# Altium footprint library Capacitors THD.PcbLib: 270 footprints (part 7 of 17)
Each footprint in its own frame and in the unit in brackets; x right, y up, seen from the top. Pads: shape width x height; smd on the part's side, far side on the other; paste and mask are expansions set on the pad; w line width, h text height; cw(c..) or ccw(c..) is an arc to the next point about the centre after c.
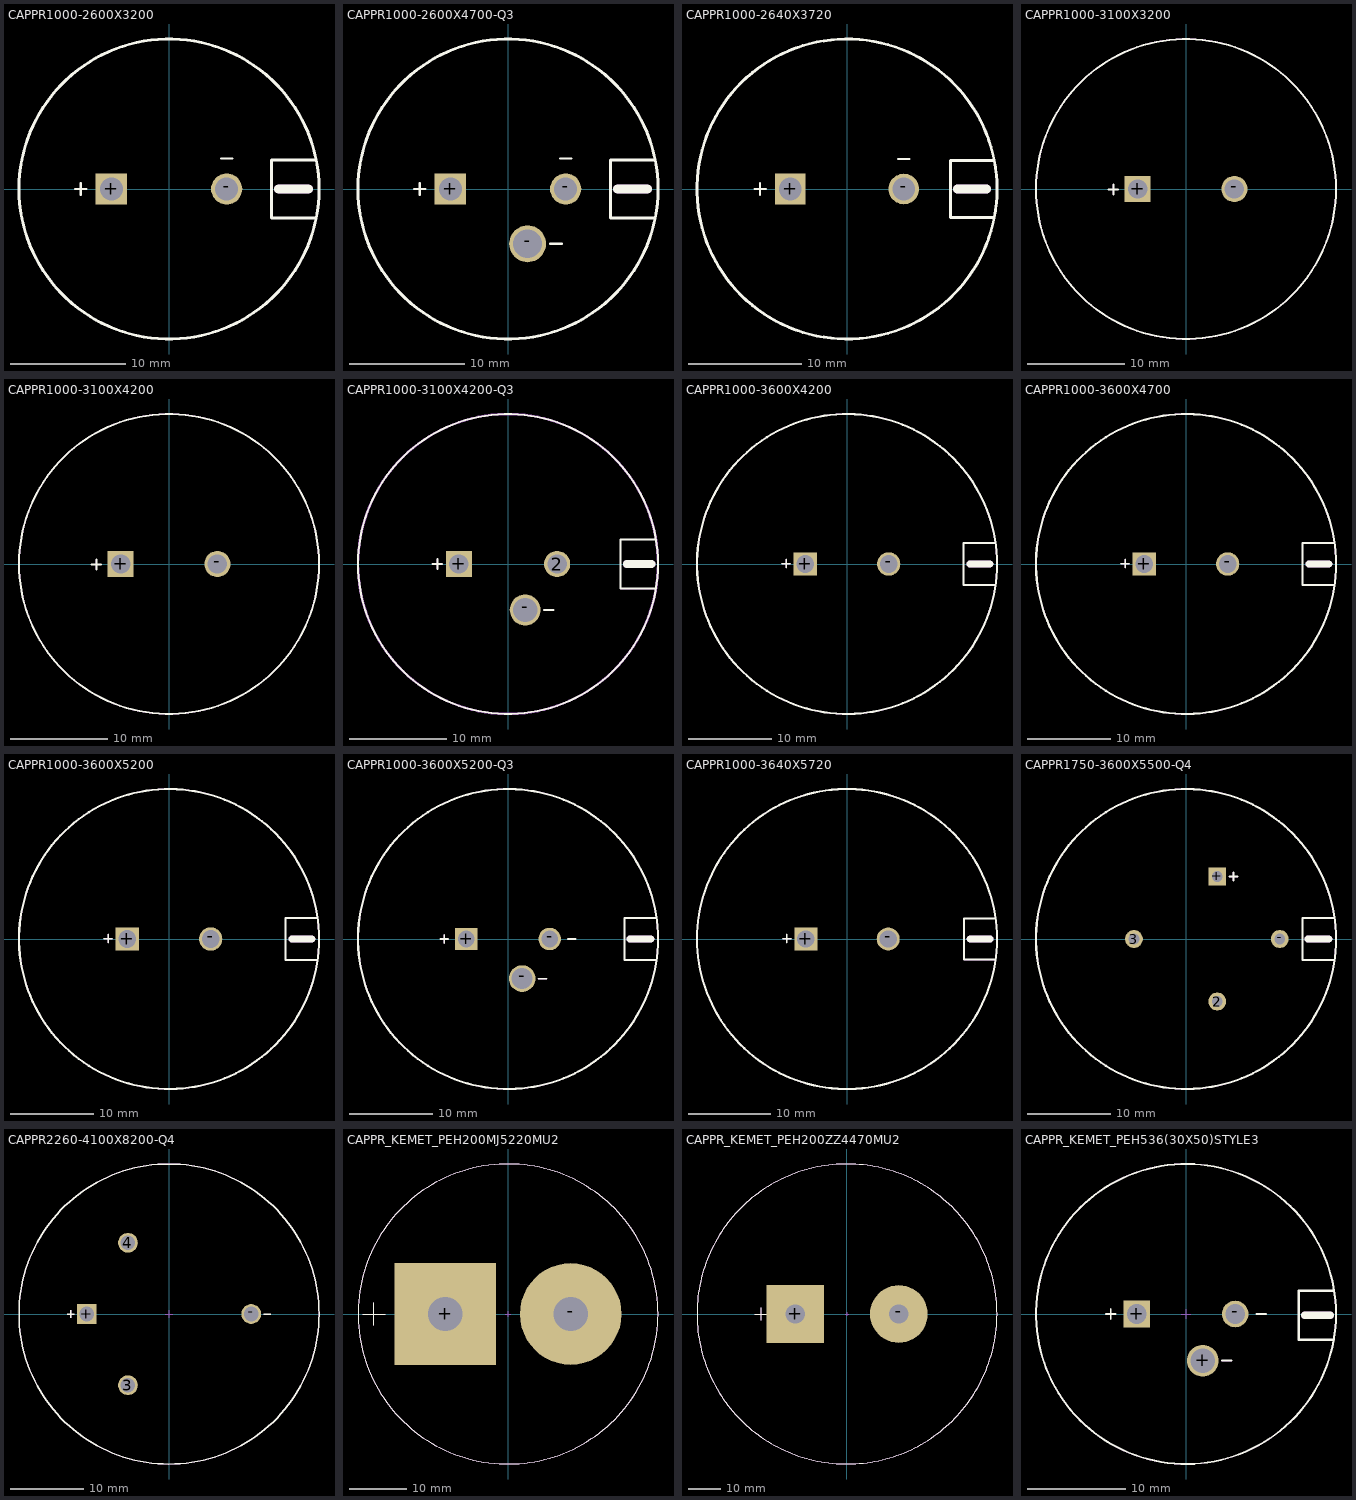
[diagram p6: the footprints below, top view; thin cyan lines are the x and y axes]

## CAPPR1000-2600X3200 [mm] "Capacitor, Radial, Pins spacing 10mm - Body Diameter 26.0mm X Body  Height 32.0mm"
height 32
pads (2):
  rect 2.7x2.7 hole 2: +(-5,0)
  round 2.7 hole 2: -(5,0)
Top Overlay:
  circle w0.254: c0,0 r13
  lines w0.2: -8.15,0 -7.15,0 ; -7.65,-0.5 -7.65,0.5 ; 4.5,2.65 5.5,2.65
  lines w0.254: 12.65,-2.5 8.9,-2.5 8.9,2.5 12.65,2.5
  lines w0.8: 9.519,0 10.154,0 11.424,0 12.059,0
Mechanical 14:
  circle w0.1: c0,0 r13
  lines w0.1: -8.15,0 -7.15,0 ; -7.65,-0.5 -7.65,0.5 ; 4.5,2.65 5.5,2.65 ; 12.65,-2.5 8.9,-2.5 8.9,2.5 12.65,2.5
  lines w0.8: 9.519,0 12.059,0
3D body "CAPPR1000-2600X3200.stp": height 32, standoff -4, extent -13,-13 13,13

## CAPPR1000-2600X4700-Q3 [mm] "Capacitor, Radial, 3 Pins spacing 10mm and 4.75mm - Body Diameter 26.0mm X Body  Height 47.0mm"
height 47
pads (3):
  rect 2.7x2.7 hole 2: +(-5,0)
  round 3.2 hole 2.5: -(1.7,-4.75)
  round 2.7 hole 2: -(5,0)
Top Overlay:
  circle w0.254: c0,0 r13
  lines w0.2: -8.15,0 -7.15,0 ; -7.65,-0.5 -7.65,0.5 ; 3.65,-4.75 4.65,-4.75 ; 4.5,2.65 5.5,2.65
  lines w0.254: 12.65,-2.5 8.9,-2.5 8.9,2.5 12.65,2.5
  lines w0.8: 9.519,0 10.154,0 11.424,0 12.059,0
Mechanical 14:
  circle w0.1: c0,0 r13
  lines w0.1: -8.15,0 -7.15,0 ; -7.65,-0.5 -7.65,0.5 ; 3.65,-4.75 4.65,-4.75 ; 4.5,2.65 5.5,2.65 ; 12.65,-2.5 8.9,-2.5 8.9,2.5 12.65,2.5
  lines w0.8: 9.519,0 12.059,0
3D body "CAPPR1000-2600X4700-Q3.stp": height 47, standoff -4, extent -13,-13 13,13

## CAPPR1000-2640X3720 [mm] "Capacitor, Radial, Pins spacing 10mm - Body Diameter 26.4.0mm X Body  Height 37.2mm"
height 37.2
pads (2):
  rect 2.7x2.7 hole 2: +(-5,0)
  round 2.7 hole 2: -(5,0)
Top Overlay:
  circle w0.254: c0,0 r13.2
  lines w0.2: -8.15,0 -7.15,0 ; -7.65,-0.5 -7.65,0.5 ; 4.5,2.65 5.5,2.65
  lines w0.254: 12.85,-2.5 9.1,-2.5 9.1,2.5 12.85,2.5
  lines w0.8: 9.719,0 10.354,0 11.624,0 12.259,0
Mechanical 14:
  circle w0.1: c0,0 r13.2
  lines w0.1: -8.15,0 -7.15,0 ; -7.65,-0.5 -7.65,0.5 ; 4.5,2.65 5.5,2.65 ; 12.85,-2.5 9.1,-2.5 9.1,2.5 12.85,2.5
  lines w0.8: 9.719,0 12.259,0
3D body "CAPPR1000-2640X3720.stp": height 37.2, standoff -4, extent -13.169,-13.18 13.195,13.181

## CAPPR1000-3100X3200 [mm] "Capacitor, Radial, Pin spacing 10.0mm - Body Diameter 31.0mm X Body  Height 32.0mm"
height 32
pads (2):
  rect 2.7x2.7 hole 2: +(-5,0)
  round 2.7 hole 2: -(5,0)
Top Overlay:
  circle w0.2: c0,0 r15.5
  lines w0.2: -8,-0.05 -7,-0.05 ; -7.5,-0.55 -7.5,0.45
Mechanical 14:
  circle w0.1: c0,0 r15.5
  lines w0.1: -8,-0.05 -7,-0.05 ; -7.5,-0.55 -7.5,0.45
3D body "CAPPR1000-3100X3200.stp": height 32, standoff -4, extent -15.5,-15.457 15.5,15.457

## CAPPR1000-3100X4200 [mm] "Capacitor, Radial, Pin spacing 10.0mm - Body Diameter 31.0mm X Body  Height 42.0mm"
height 42
pads (2):
  rect 2.7x2.7 hole 2: +(-5,0)
  round 2.7 hole 2: -(5,0)
Top Overlay:
  circle w0.2: c0,0 r15.5
  lines w0.2: -8,-0.05 -7,-0.05 ; -7.5,-0.55 -7.5,0.45
Mechanical 14:
  circle w0.1: c0,0 r15.5
  lines w0.1: -8,-0.05 -7,-0.05 ; -7.5,-0.55 -7.5,0.45
3D body "CAPPR1000-3100X4200.stp": height 42, standoff -4, extent -15.5,-15.5 15.5,15.5

## CAPPR1000-3100X4200-Q3 [mm] "Capacitor, Radial, 3 Pins spacing 10mm and 4.75mm - Body Diameter 31mm X Body  Height 42mm"
height 42
pads (3):
  round 2.7 hole 2: 2(5.08,0)
  rect 2.7x2.7 hole 2: +(-5.08,0)
  round 3.2 hole 2.5: -(1.78,-4.75)
Top Overlay:
  circle w0.2: c0,0 r15.5
  lines w0.2: -7.8,0 -6.8,0 ; -7.3,-0.5 -7.3,0.5 ; 3.7,-4.75 4.7,-4.75 ; 15.2,-2.54 11.644,-2.54 11.644,2.54 15.2,2.54
  lines w0.8: 12.279,0 14.819,0
Mechanical 13:
  circle w0.254: c0,0 r15.5
Mechanical 14:
  lines w0.1: -7.8,0 -6.8,0 ; -7.3,-0.5 -7.3,0.5 ; 3.7,-4.75 4.7,-4.75 ; 15.2,-2.54 11.644,-2.54 11.644,2.54 15.2,2.54
  lines w0.8: 12.279,0 14.819,0
3D body "CAPPR1000-3100X4200-Q3.stp": height 42, standoff -4, extent -15.5,-15.5 15.5,15.5

## CAPPR1000-3600X4200 [mm] "Capacitor, Radial, Leads spacing 10mm - Body Diameter 35.0mm X Body  Height 40.0mm"
height 42
pads (2):
  rect 2.8x2.8 hole 2.1: +(-5,0)
  round 2.8 hole 2.1: -(5,0)
Top Overlay:
  circle w0.254: c0,0 r18
  lines w0.2: -7.8,0.05 -6.8,0.05 ; -7.3,-0.45 -7.3,0.55
  lines w0.254: 17.75,-2.5 14,-2.5 14,2.5 17.75,2.5
  lines w0.8: 14.725,0 17.159,0
Mechanical 14:
  circle w0.1: c0,0 r18
  lines w0.1: -7.8,0.05 -6.8,0.05 ; -7.3,-0.45 -7.3,0.55 ; 17.75,-2.5 14,-2.5 14,2.5 17.75,2.5
  lines w0.8: 14.725,0 17.159,0
3D body "CAPPR1000-3600X4200.stp": height 42, standoff -4, extent -18,-17.985 18,17.985

## CAPPR1000-3600X4700 [mm] "Capacitor, Radial, Leads spacing 10mm - Body Diameter 36.0mm X Body  Height 47.0mm"
height 47
pads (2):
  rect 2.8x2.8 hole 2.1: +(-5,0)
  round 2.8 hole 2.1: -(5,0)
Top Overlay:
  circle w0.254: c0,0 r18
  lines w0.2: -7.8,0.05 -6.8,0.05 ; -7.3,-0.45 -7.3,0.55
  lines w0.254: 17.75,-2.5 14,-2.5 14,2.5 17.75,2.5
  lines w0.8: 14.725,0 17.159,0
Mechanical 14:
  circle w0.1: c0,0 r18
  lines w0.1: -7.8,0.05 -6.8,0.05 ; -7.3,-0.45 -7.3,0.55 ; 17.75,-2.5 14,-2.5 14,2.5 17.75,2.5
  lines w0.8: 14.725,0 17.159,0
3D body "CAPPR1000-3600X4700.stp": height 47, standoff -4, extent -18,-17.995 17.997,17.996

## CAPPR1000-3600X5200 [mm] "Capacitor, Radial, Leads spacing 10mm - Body Diameter 35.0mm X Body  Height 50.0mm"
height 52
pads (2):
  rect 2.8x2.8 hole 2.1: +(-5,0)
  round 2.8 hole 2.1: -(5,0)
Top Overlay:
  circle w0.254: c0,0 r18
  lines w0.2: -7.8,0.05 -6.8,0.05 ; -7.3,-0.45 -7.3,0.55
  lines w0.254: 17.75,-2.5 14,-2.5 14,2.5 17.75,2.5
  lines w0.8: 14.725,0 17.159,0
Mechanical 14:
  circle w0.1: c0,0 r18
  lines w0.1: -7.8,0.05 -6.8,0.05 ; -7.3,-0.45 -7.3,0.55 ; 17.75,-2.5 14,-2.5 14,2.5 17.75,2.5
  lines w0.8: 14.725,0 17.159,0
3D body "CAPPR1000-3600X5200.stp": height 52, standoff -4, extent -18,-17.958 18,17.958

## CAPPR1000-3600X5200-Q3 [mm] "Capacitor, Radial, 3 Pins spacing 10mm and 4.75mm - Body Diameter 36.0mm X Body  Height 52.0mm"
height 52
pads (3):
  rect 2.7x2.7 hole 2: +(-5,0)
  round 3.2 hole 2.5: -(1.7,-4.75)
  round 2.7 hole 2: -(5,0)
Top Overlay:
  circle w0.254: c0,0 r18
  lines w0.2: -8.15,0 -7.15,0 ; -7.65,-0.5 -7.65,0.5 ; 3.65,-4.75 4.65,-4.75 ; 7.15,0 8.15,0
  lines w0.254: 17.75,-2.5 14,-2.5 14,2.5 17.75,2.5
  lines w0.8: 14.619,0 17.159,0
Mechanical 14:
  circle w0.1: c0,0 r18
  lines w0.1: -8.15,0 -7.15,0 ; -7.65,-0.5 -7.65,0.5 ; 3.65,-4.75 4.65,-4.75 ; 7.15,0 8.15,0 ; 17.75,-2.5 14,-2.5 14,2.5 17.75,2.5
  lines w0.8: 14.619,0 17.159,0
3D body "CAPPR1000-3600X5200-Q3.stp": height 52, standoff -4, extent -18,-17.958 18,17.958

## CAPPR1000-3640X5720 [mm] "Capacitor, Radial, Leads spacing 10mm - Body Diameter 36.4mm X Body  Height 57.2mm"
height 57.2
pads (2):
  rect 2.8x2.8 hole 2.1: +(-5,0)
  round 2.8 hole 2.1: -(5,0)
Top Overlay:
  circle w0.254: c0,0 r18.2
  lines w0.2: -7.8,0.05 -6.8,0.05 ; -7.3,-0.45 -7.3,0.55
  lines w0.254: 17.95,-2.5 14.2,-2.5 14.2,2.5 17.95,2.5
  lines w0.8: 14.925,0 17.359,0
Mechanical 14:
  circle w0.1: c0,0 r18.2
  lines w0.1: -7.8,0.05 -6.8,0.05 ; -7.3,-0.45 -7.3,0.55 ; 17.95,-2.5 14.2,-2.5 14.2,2.5 17.95,2.5
  lines w0.8: 14.925,0 17.359,0
3D body "CAPPR1000-3640X5720.stp": height 57.2, standoff -4, extent -18.2,-18.199 18.197,18.199

## CAPPR1750-3600X5500-Q4 [mm] "Capacitor, Radial, 4 Pins spacing 15mm and 17.5mm - Body Diameter 36.0mm X Body  Height 55.0mm"
height 55
pads (4):
  round 2.15 hole 1.3: 2(3.75,-7.5) 3(-6.25,0) -(11.25,0)
  rect 2.15x2.15 hole 1.3: +(3.75,7.5)
Top Overlay:
  circle w0.254: c0,0 r18
  lines w0.2: 5.2,7.5 6.2,7.5 ; 5.7,7 5.7,8
  lines w0.254: 17.75,-2.5 14,-2.5 14,2.5 17.75,2.5
  lines w0.8: 14.619,0 17.159,0
Mechanical 14:
  circle w0.1: c0,0 r18
  lines w0.1: 5.2,7.5 6.2,7.5 ; 5.7,7 5.7,8 ; 17.75,-2.5 14,-2.5 14,2.5 17.75,2.5
  lines w0.8: 14.619,0 17.159,0
3D body "CAPPR1750-3600X5500-Q4.stp": height 50, standoff -3.2, extent -18,-18 17.997,18

## CAPPR2260-4100X8200-Q4 [mm] "Capacitor, Radial, 4 Pins spacing 22.6mm - Body Diameter 41mm X Body  Height 82mm"
height 82
pads (4):
  round 2.7 hole 2: 3(-5.625,-9.743) 4(-5.625,9.743) -(11.25,0)
  rect 2.7x2.7 hole 2: +(-11.25,0)
Top Overlay:
  circle w0.2: c0,0 r20.524
  lines w0.2: -13.95,0 -12.95,0 ; -13.45,-0.5 -13.45,0.5 ; 12.95,0 13.95,0
Mechanical 8:
  lines w0.1: -11.75,0 -11.25,0 ; -11.25,-0.5 -11.25,0 ; -11.25,0.5 -11.25,0 ; -10.75,0 -11.25,0 ; -6.125,-9.743 -5.625,-9.743 ; -6.125,9.743 -5.625,9.743 ; -5.625,-10.243 -5.625,-9.743 ; -5.625,-9.243 -5.625,-9.743 ; -5.625,9.243 -5.625,9.743 ; -5.625,10.243 -5.625,9.743 ; -5.125,-9.743 -5.625,-9.743 ; -5.125,9.743 -5.625,9.743 ; -0.5,0 0,0 ; 0,-0.5 0,0 ; 0,0.5 0,0 ; 0.5,0 0,0 ; 10.75,0 11.25,0 ; 11.25,-0.5 11.25,0 ; 11.25,0.5 11.25,0 ; 11.75,0 11.25,0
Mechanical 14:
  circle w0.1: c0,0 r20.524
  lines w0.1: -13.95,0 -12.95,0 ; -13.45,-0.5 -13.45,0.5 ; 12.95,0 13.95,0
3D body "CAPPR2260-4100X8200-Q4.stp": height 82, standoff -4, extent -20.5,-20.466 20.5,20.466

## CAPPR_KEMET_PEH200MJ5220MU2 [mm] "Capacitor, Radial, Leads spacing 22mm - Body Diameter 50mm X Body  Height 95mm"
height 103.4
pads (2):
  rect 17.8x17.8 hole 6: +(-11,0)
  round 17.8 hole 6: -(11,0)
Top Overlay:
  circle w0.2: c0,0 r26.3
  lines w0.2: -25.5,0 -21.5,0 ; -23.5,-2 -23.5,2
Mechanical 8:
  lines w0.05: -11.5,0 -11,0 ; -11,-0.5 -11,0 ; -11,0.5 -11,0 ; -10.5,0 -11,0 ; -0.5,0 0,0 ; 0,-0.5 0,0 ; 0,0.5 0,0 ; 0.5,0 0,0 ; 10.5,0 11,0 ; 11,-0.5 11,0 ; 11,0.5 11,0 ; 11.5,0 11,0
Mechanical 14:
  circle w0.1: c0,0 r26.3
  lines w0.1: -25.5,0 -21.5,0 ; -23.5,-2 -23.5,2 ; -17.5,-3 -17.5,-2 ; -17.5,-1 -17.5,1 ; -17.5,2 -17.5,3 ; -17.344,-4 ccw(c-11,0) -17,-4.5 ; -17.344,4 cw(c-11,0) -17,4.5 ; -16,-5.59 ccw(c-11,0) -15,-6.344 ; -16,5.59 cw(c-11,0) -15,6.344 ; -14,-6.874 ccw(c-11,0) -13,-7.228 ; -14,6.874 cw(c-11,0) -13,7.228 ; -12,-7.433 ccw(c-11,0) -10,-7.433 ; -12,7.433 cw(c-11,0) -10,7.433 ; -9,-7.228 ccw(c-11,0) -8,-6.874 ; -9,7.228 cw(c-11,0) -8,6.874 ; -7,-6.344 ccw(c-11,0) -6,-5.59 ; -7,6.344 cw(c-11,0) -6,5.59 ; -5,-4.5 ccw(c-11,0) -4.656,-4 ; -5,4.5 cw(c-11,0) -4.656,4 ; -4.5,-3 -4.5,-2 ; -4.5,-1 -4.5,1 ; -4.5,2 -4.5,3 ; 3.567,-1 cw(c11,0) 3.567,1 ; 3.772,-2 ccw(c11,0) 4.126,-3 ; 3.772,2 cw(c11,0) 4.126,3 ; 4.656,-4 ccw(c11,0) 5.41,-5 ; 4.656,4 cw(c11,0) 5.41,5 ; 6.5,-6 ccw(c11,0) 7.258,-6.5 9,-6.5 ; 6.5,6 cw(c11,0) 7.258,6.5 9,6.5 ; 10,-6.5 12,-6.5 ; 10,6.5 12,6.5 ; 13,-6.5 14.742,-6.5 ccw(c11,0) 15.5,-6 ; 13,6.5 14.742,6.5 cw(c11,0) 15.5,6 ; 16.59,-5 ccw(c11,0) 17.344,-4 ; 16.59,5 cw(c11,0) 17.344,4 ; 17.874,-3 ccw(c11,0) 18.228,-2 ; 17.874,3 cw(c11,0) 18.228,2 ; 18.433,-1 ccw(c11,0) 18.433,1
3D body "CAPPR_KEMET_PEH200MJ5220MU2_part1.stp": height 103.4, standoff 0, extent -26.3,-26.3 26.3,26.3
3D body "CAPPR_KEMET_PEH200MJ5220MU2_part2.stp": height 5.2, standoff -6.1, extent -19,-8 19,8

## CAPPR_KEMET_PEH200ZZ4470MU2 [mm] "Capacitor, Radial, Leads spacing 32mm - Body Diameter 90mm X Body  Height 220mm"
height 226.9
pads (2):
  rect 17.8x17.8 hole 6: +(-16,0)
  round 17.8 hole 6: -(16,0)
Top Overlay:
  circle w0.2: c0,0 r46.3
  lines w0.2: -28.5,0 -24.5,0 ; -26.5,-2 -26.5,2
Mechanical 8:
  lines w0.1: -16.5,0 -16,0 ; -16,-0.5 -16,0 ; -16,0.5 -16,0 ; -15.5,0 -16,0 ; -0.5,0 0,0 ; 0,-0.5 0,0 ; 0,0.5 0,0 ; 0.5,0 0,0 ; 15.5,0 16,0 ; 16,-0.5 16,0 ; 16,0.5 16,0 ; 16.5,0 16,0
Mechanical 14:
  circle w0.1: c0,0 r46.3
  lines w0.1: -28.5,0 -24.5,0 ; -26.5,-2 -26.5,2 ; -22.5,-3 -22.5,-2 ; -22.5,-1 -22.5,1 ; -22.5,2 -22.5,3 ; -22.344,-4 ccw(c-16,0) -22,-4.5 ; -22.344,4 cw(c-16,0) -22,4.5 ; -21,-5.59 ccw(c-16,0) -20,-6.344 ; -21,5.59 cw(c-16,0) -20,6.344 ; -19,-6.874 ccw(c-16,0) -18,-7.228 ; -19,6.874 cw(c-16,0) -18,7.228 ; -17,-7.433 ccw(c-16,0) -15,-7.433 ; -17,7.433 cw(c-16,0) -15,7.433 ; -14,-7.228 ccw(c-16,0) -13,-6.874 ; -14,7.228 cw(c-16,0) -13,6.874 ; -12,-6.344 ccw(c-16,0) -11,-5.59 ; -12,6.344 cw(c-16,0) -11,5.59 ; -10,-4.5 ccw(c-16,0) -9.656,-4 ; -10,4.5 cw(c-16,0) -9.656,4 ; -9.5,-3 -9.5,-2 ; -9.5,-1 -9.5,1 ; -9.5,2 -9.5,3 ; 8.567,-1 cw(c16,0) 8.567,1 ; 8.772,-2 ccw(c16,0) 9.126,-3 ; 8.772,2 cw(c16,0) 9.126,3 ; 9.656,-4 ccw(c16,0) 10.41,-5 ; 9.656,4 cw(c16,0) 10.41,5 ; 11.5,-6 ccw(c16,0) 12.258,-6.5 14,-6.5 ; 11.5,6 cw(c16,0) 12.258,6.5 14,6.5 ; 15,-6.5 17,-6.5 ; 15,6.5 17,6.5 ; 18,-6.5 19.742,-6.5 ccw(c16,0) 20.5,-6 ; 18,6.5 19.742,6.5 cw(c16,0) 20.5,6 ; 21.59,-5 ccw(c16,0) 22.344,-4 ; 21.59,5 cw(c16,0) 22.344,4 ; 22.874,-3 ccw(c16,0) 23.228,-2 ; 22.874,3 cw(c16,0) 23.228,2 ; 23.433,-1 ccw(c16,0) 23.433,1
3D body "CAPPR_KEMET_PEH200ZZ4470MU2_Part1.stp": height 226.9, standoff 0, extent -46.3,-46.3 46.3,46.3
3D body "CAPPR_KEMET_PEH200ZZ4470MU2_Part2.stp": height 5.2, standoff -6.1, extent -24,-8 24,8

## CAPPR_KEMET_PEH536(30X50)STYLE3 [mm] "Capacitor, Radial, 3 Pins spacing 10mm and 4.75mm - Body Diameter 30.5mm X Body  Height 51.0mm"
height 51
pads (3):
  rect 2.7x2.7 hole 2: +(-5,0)
  round 3.2 hole 2.5: +(1.7,-4.75)
  round 2.7 hole 2: -(5,0)
Top Overlay:
  circle w0.2: c0,0 r15.25
  lines w0.2: -8.15,0 -7.15,0 ; -7.65,-0.5 -7.65,0.5 ; 3.65,-4.75 4.65,-4.75 ; 7.15,0 8.15,0
  lines w0.254: 15,-2.625 11.475,-2.625 11.475,2.375 15,2.375
  lines w0.8: 12.094,-0.125 14.634,-0.125
Mechanical 8:
  lines w0.1: -0.5,0 0,0 ; 0,-0.5 0,0 ; 0,0.5 0,0 ; 0.5,0 0,0
Mechanical 14:
  circle w0.1: c0,0 r15.25
  lines w0.1: -8.15,0 -7.15,0 ; -7.65,-0.5 -7.65,0.5 ; 3.65,-4.75 4.65,-4.75 ; 7.15,0 8.15,0 ; 15.025,-2.625 11.475,-2.625 11.475,2.375 15.025,2.375
  lines w0.8: 12.094,-0.125 14.634,-0.125
3D body "CAPPR_KEMET_PEH536(30X50)STYLE3.stp": height 51, standoff -4, extent -15.25,-15.249 15.248,15.25